# Altium schematic symbol library Inductor Iron Dot.Schlib: 1 symbol
Pins are listed as number, name and electrical type; pins without a type are passive.

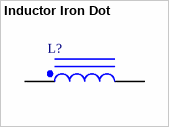
[diagram p0: symbol Inductor Iron Dot]

## Inductor Iron Dot
designator L?
Magnetic-Core Inductor with Winding Polarity Marking
pins: 1, 2